# Altium footprint library MPM3860GQW-Z.PcbLib: 1 footprints
Each footprint in its own frame and in the unit in brackets; x right, y up, seen from the top. Pads: shape width x height; smd on the part's side, far side on the other; paste and mask are expansions set on the pad; w line width, h text height; cw(c..) or ccw(c..) is an arc to the next point about the centre after c.
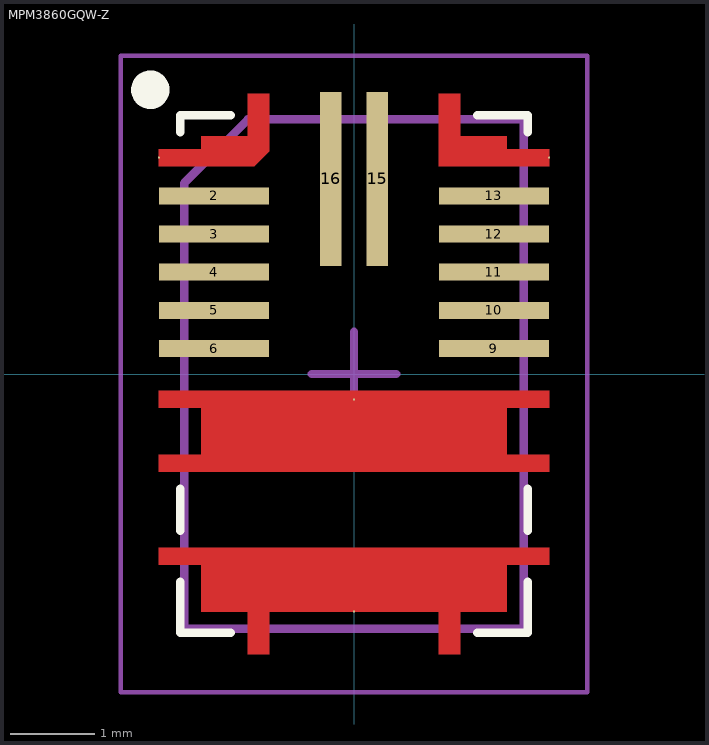
[diagram p0: the footprint, top view; thin cyan lines are the x and y axes]

## MPM3860GQW-Z [mm]
pads (16):
  round 0.025 smd: 1(-2.3,2.55) 7(0,-0.3) 8(0,-2.8) 14(2.3,2.55)
  rect 1.3x0.2 smd paste+0: 2(-1.65,2.1) 3(-1.65,1.65) 4(-1.65,1.2) 5(-1.65,0.75) 6(-1.65,0.3) 9(1.65,0.3) 10(1.65,0.75) 11(1.65,1.2) 12(1.65,1.65) 13(1.65,2.1)
  rect 0.25x2.05 smd paste+0: 15(0.275,2.3) 16(-0.275,2.3)
Top Layer:
  region: 2.3,-2.05 -2.3,-2.05 -2.3,-2.25 -1.8,-2.25 -1.8,-2.8 -1.25,-2.8 -1.25,-3.3 -1,-3.3 -1,-2.8 1,-2.8 1,-3.3 1.25,-3.3 1.25,-2.8 1.8,-2.8 1.8,-2.25 2.3,-2.25
  region: -2.3,2.45 -1.175,2.45 -1,2.625 -1,3.3 -1.25,3.3 -1.25,2.8 -1.8,2.8 -1.8,2.65 -2.3,2.65
  region: 2.3,2.45 1,2.45 1,3.3 1.25,3.3 1.25,2.8 1.8,2.8 1.8,2.65 2.3,2.65
  region: 2.3,-0.2 -2.3,-0.2 -2.3,-0.4 -1.8,-0.4 -1.8,-0.95 -2.3,-0.95 -2.3,-1.15 2.3,-1.15 2.3,-0.95 1.8,-0.95 1.8,-0.4 2.3,-0.4
Top Overlay:
  circle w0.254: c-2.4,3.35 r0.1
  lines w0.1: -2.05,-2.45 -2.05,-3.05 -1.45,-3.05 ; -2.05,-1.85 -2.05,-1.35 ; -2.05,2.85 -2.05,3.05 -1.45,3.05 ; 1.45,-3.05 2.05,-3.05 2.05,-2.45 ; 1.45,3.05 2.05,3.05 2.05,2.85 ; 2.05,-1.85 2.05,-1.35
Mechanical 1:
  lines w0.1: -2,-3 -2,2.25 -1.25,3 2,3 2,-3 -2,-3
  text ".Designator" at -3.304,-0.293 h0.65
Mechanical 2:
  lines w0.05: -2.75,-3.75 2.75,-3.75 2.75,3.75 -2.75,3.75 -2.75,-3.75
  lines w0.1: -0.5,0 0.5,0 ; 0,-0.5 0,0.5
3D body "MPM3650CGQW.step": height 1.6, standoff 0, extent -2,-3 2,3